# Altium integrated library TI Converter Analog to Digital.IntLib: 146 symbols (part 2 of 4)
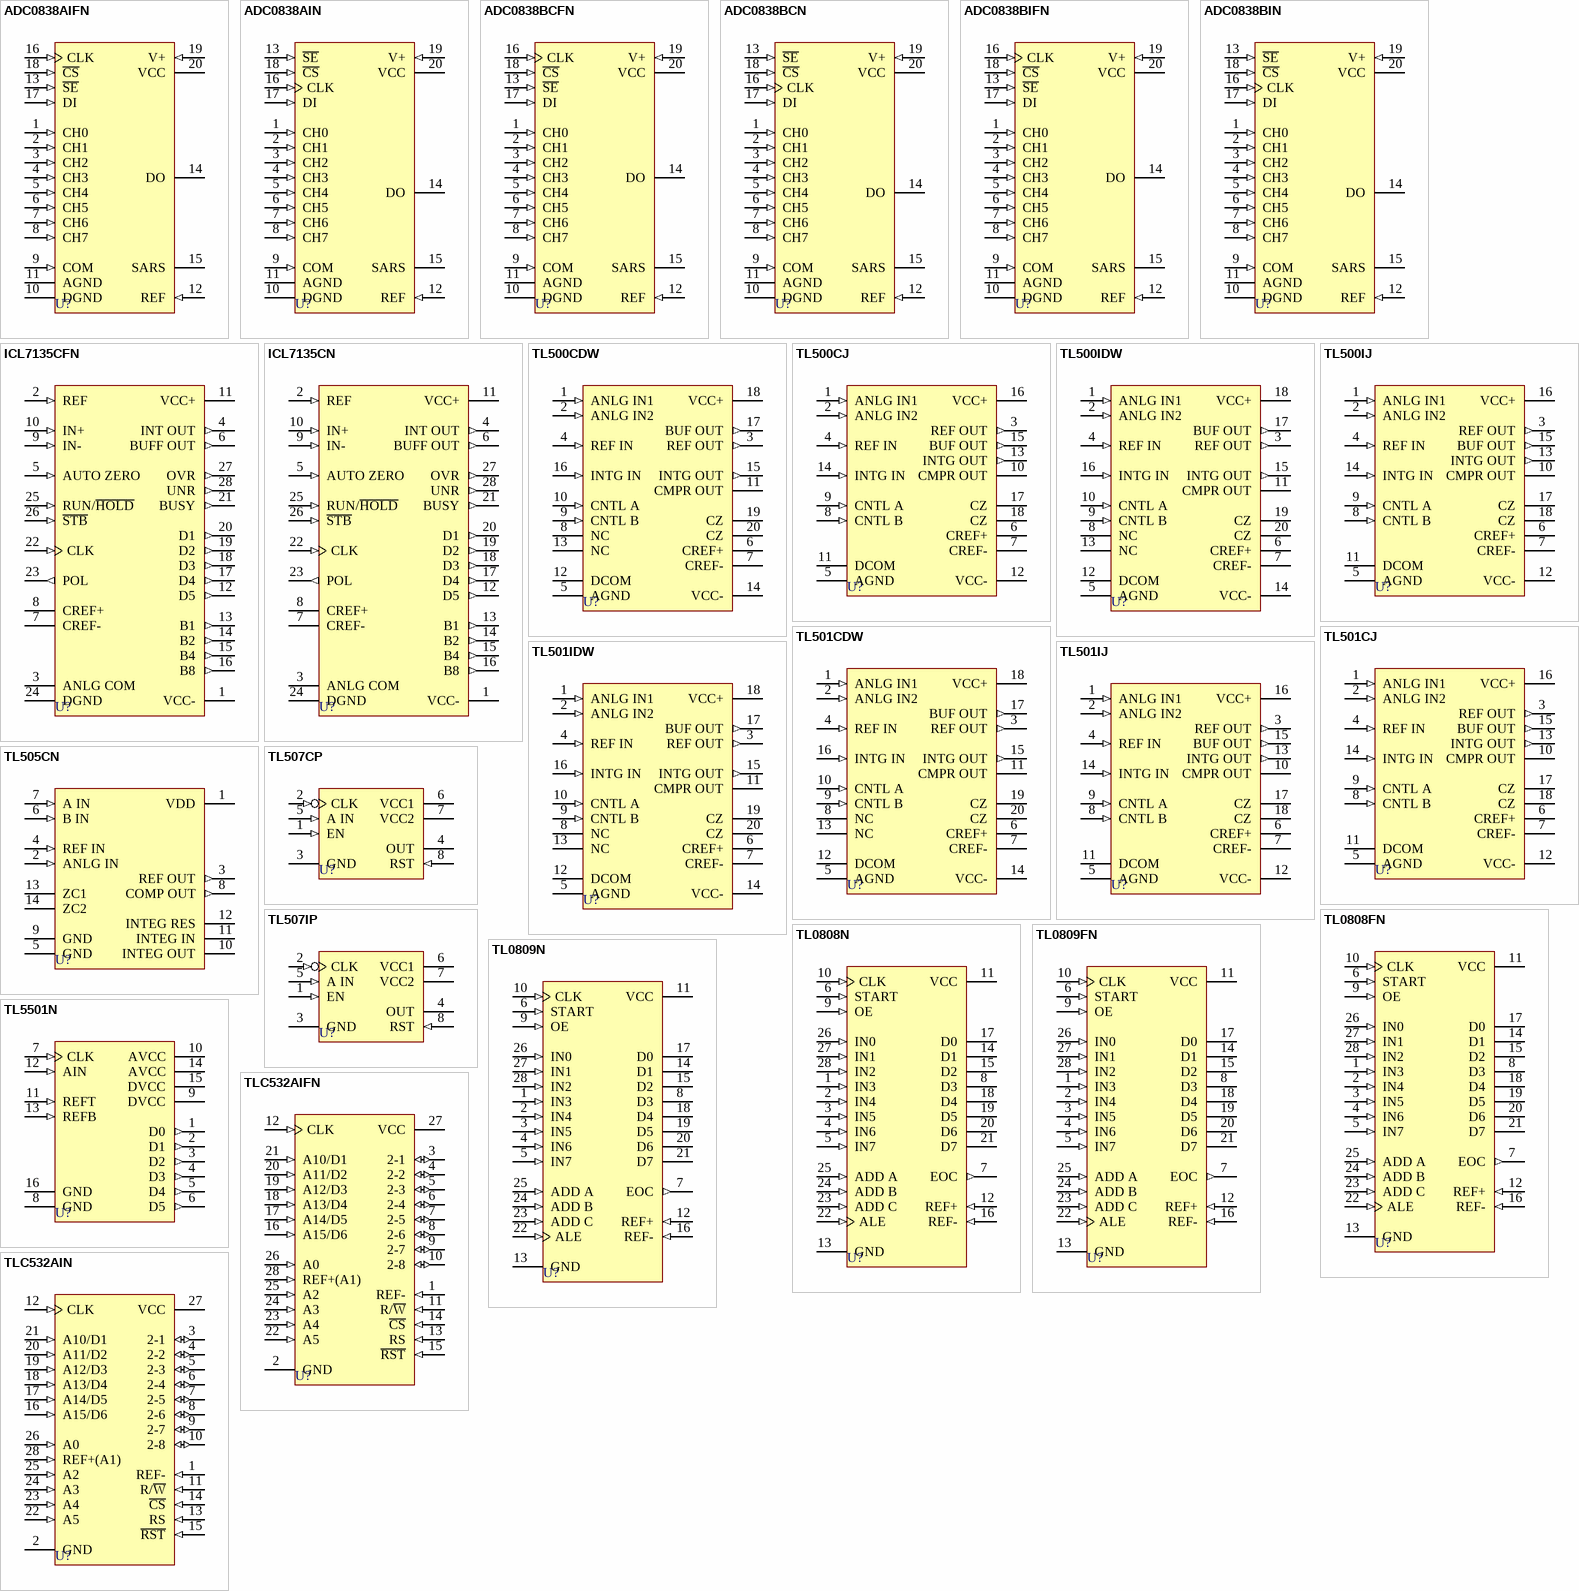
[diagram p6: symbols ADC0838AIFN to TLC532AIN]

## TL0808FN
designator U?
Low-Power CMOS Analog-to-Digital Converter with 8-Channel Multiplexer; Published: 15-Apr-2002; LatestRevisionDate: 13-Apr-2006; LatestRevisionNote: IPC-7351 Footprint Added.; DatasheetVersion: May-1988; PackageVersion: Oct-1994; PackageReference: FN028; Publisher: Altium Limited; PackageDescription: 28-Pin Leaded Chip Carrier 1.27 mm Pitch; Code_JEDEC: MS-018; Code_IPC: PLCC-28; ComponentLink1Description: Manufacturer Link; ComponentLink1URL: http://www.ti.com/
footprint FN028_N (Leaded Chip Carrier, 28-Leads, Body 11.5x11.5mm, Pitch 1.27mm, IPC Medium Density)
footprint FN028_L (Leaded Chip Carrier, 28-Leads, Body 11.5x11.5mm, Pitch 1.27mm, IPC High Density)
footprint FN028_M (Leaded Chip Carrier, 28-Leads, Body 11.5x11.5mm, Pitch 1.27mm, IPC Low Density)
3D model TL0808-FN028 (28-Pin Leaded Chip Carrier 1.27 mm Pitch)
pins: 1 IN3 (in), 2 IN4 (in), 3 IN5 (in), 4 IN6 (in), 5 IN7 (in), 6 START (in), 7 EOC (out), 8 D3 (hiz), 9 OE (in), 10 CLK (in), 11 VCC (power), 12 REF+ (in), 13 GND (power), 14 D1 (hiz), 15 D2 (hiz), 16 REF- (in), 17 D0 (hiz), 18 D4 (hiz), 19 D5 (hiz), 20 D6 (hiz), 21 D7 (hiz), 22 ALE (in), 23 ADD C (in), 24 ADD B (in), 25 ADD A (in), 26 IN0 (in), 27 IN1 (in), 28 IN2 (in)

## TL0808N
designator U?
Low-Power CMOS Analog-to-Digital Converter with 8-Channel Multiplexer; Published: 15-Apr-2002; LatestRevisionDate: 08-Jul-2005; LatestRevisionNote: Stylized 3D Model Added.; DatasheetVersion: May-1988; PackageVersion: Oct-1994; PackageReference: N028; Publisher: Altium Limited; PackageDescription: DIP; 28 Leads; Row Spacing 15.24 mm; Pitch 2.54 mm; ComponentLink1Description: Manufacturer Link; ComponentLink1URL: http://www.ti.com/
footprint N028 (DIP; 28 Leads; Row Spacing 15.24 mm; Pitch 2.54 mm)
3D model N028 (DIP; 28 Leads; Row Spacing 15.24 mm; Pitch 2.54 mm)
pins: 1 IN3 (in), 2 IN4 (in), 3 IN5 (in), 4 IN6 (in), 5 IN7 (in), 6 START (in), 7 EOC (out), 8 D3 (hiz), 9 OE (in), 10 CLK (in), 11 VCC (power), 12 REF+ (in), 13 GND (power), 14 D1 (hiz), 15 D2 (hiz), 16 REF- (in), 17 D0 (hiz), 18 D4 (hiz), 19 D5 (hiz), 20 D6 (hiz), 21 D7 (hiz), 22 ALE (in), 23 ADD C (in), 24 ADD B (in), 25 ADD A (in), 26 IN0 (in), 27 IN1 (in), 28 IN2 (in)

## TL0809FN
designator U?
Low-Power CMOS Analog-to-Digital Converter with 8-Channel Multiplexer; Published: 15-Apr-2002; LatestRevisionDate: 13-Apr-2006; LatestRevisionNote: IPC-7351 Footprint Added.; DatasheetVersion: May-1988; PackageVersion: Oct-1994; PackageReference: FN028; Publisher: Altium Limited; PackageDescription: 28-Pin Leaded Chip Carrier 1.27 mm Pitch; Code_JEDEC: MS-018; Code_IPC: PLCC-28; ComponentLink1Description: Manufacturer Link; ComponentLink1URL: http://www.ti.com/
footprint FN028_N (Leaded Chip Carrier, 28-Leads, Body 11.5x11.5mm, Pitch 1.27mm, IPC Medium Density)
footprint FN028_L (Leaded Chip Carrier, 28-Leads, Body 11.5x11.5mm, Pitch 1.27mm, IPC High Density)
footprint FN028_M (Leaded Chip Carrier, 28-Leads, Body 11.5x11.5mm, Pitch 1.27mm, IPC Low Density)
3D model TL0809-FN028 (28-Pin Leaded Chip Carrier 1.27 mm Pitch)
pins: 1 IN3 (in), 2 IN4 (in), 3 IN5 (in), 4 IN6 (in), 5 IN7 (in), 6 START (in), 7 EOC (out), 8 D3 (hiz), 9 OE (in), 10 CLK (in), 11 VCC (power), 12 REF+ (in), 13 GND (power), 14 D1 (hiz), 15 D2 (hiz), 16 REF- (in), 17 D0 (hiz), 18 D4 (hiz), 19 D5 (hiz), 20 D6 (hiz), 21 D7 (hiz), 22 ALE (in), 23 ADD C (in), 24 ADD B (in), 25 ADD A (in), 26 IN0 (in), 27 IN1 (in), 28 IN2 (in)

## TL0809N
designator U?
Low-Power CMOS Analog-to-Digital Converter with 8-Channel Multiplexer; Published: 15-Apr-2002; LatestRevisionDate: 08-Jul-2005; LatestRevisionNote: Stylized 3D Model Added.; DatasheetVersion: May-1988; PackageVersion: Oct-1994; PackageReference: N028; Publisher: Altium Limited; PackageDescription: DIP; 28 Leads; Row Spacing 15.24 mm; Pitch 2.54 mm; ComponentLink1Description: Manufacturer Link; ComponentLink1URL: http://www.ti.com/
footprint N028 (DIP; 28 Leads; Row Spacing 15.24 mm; Pitch 2.54 mm)
3D model N028 (DIP; 28 Leads; Row Spacing 15.24 mm; Pitch 2.54 mm)
pins: 1 IN3 (in), 2 IN4 (in), 3 IN5 (in), 4 IN6 (in), 5 IN7 (in), 6 START (in), 7 EOC (out), 8 D3 (hiz), 9 OE (in), 10 CLK (in), 11 VCC (power), 12 REF+ (in), 13 GND (power), 14 D1 (hiz), 15 D2 (hiz), 16 REF- (in), 17 D0 (hiz), 18 D4 (hiz), 19 D5 (hiz), 20 D6 (hiz), 21 D7 (hiz), 22 ALE (in), 23 ADD C (in), 24 ADD B (in), 25 ADD A (in), 26 IN0 (in), 27 IN1 (in), 28 IN2 (in)

## TL5501N
designator U?
6-Bit Analog-to-Digital Converter; ComponentAvailability: Obsolete; Published: 15-Apr-2002; LatestRevisionDate: 08-Jul-2005; LatestRevisionNote: Stylized 3D Model Added.; DatasheetVersion: Oct-1988; PackageVersion: Oct-1995; PackageReference: N016; Publisher: Altium Limited; PackageDescription: DIP; 16 Leads; Row Spacing 7.62 mm; Pitch 2.54 mm; Code_JEDEC: MS-001-BB; ComponentLink1Description: Manufacturer Link; ComponentLink1URL: http://www.ti.com/
footprint N016 (DIP; 16 Leads; Row Spacing 7.62 mm; Pitch 2.54 mm)
3D model N016 (DIP; 16 Leads; Row Spacing 7.62 mm; Pitch 2.54 mm)
pins: 1 D0 (out), 2 D1 (out), 3 D2 (out), 4 D3 (out), 5 D4 (out), 6 D5 (out), 7 CLK (in), 8 GND (power), 9 DVCC (power), 10 AVCC (power), 11 REFT (in), 12 AIN (in), 13 REFB (in), 14 AVCC (power), 15 DVCC (power), 16 GND (power)

## TLC532AIFN
designator U?
LinCMOS 8-Bit Analog-to-Digital Peripheral with 5 Analog and 6 Dual-Purpose Inputs; Published: 15-Apr-2002; LatestRevisionDate: 13-Apr-2006; LatestRevisionNote: IPC-7351 Footprint Added.; DatasheetVersion: Sep-1986; PackageVersion: Oct-1994; PackageReference: FN028; Publisher: Altium Limited; PackageDescription: 28-Pin Leaded Chip Carrier 1.27 mm Pitch; Code_JEDEC: MS-018; Code_IPC: PLCC-28; ComponentLink1Description: Manufacturer Link; ComponentLink1URL: http://www.ti.com/; ComponentLink2Description: Datasheet; ComponentLink2URL: http://www-s.ti.com/sc/ds/tlc532a.pdf
footprint FN028_N (Leaded Chip Carrier, 28-Leads, Body 11.5x11.5mm, Pitch 1.27mm, IPC Medium Density)
footprint FN028_L (Leaded Chip Carrier, 28-Leads, Body 11.5x11.5mm, Pitch 1.27mm, IPC High Density)
footprint FN028_M (Leaded Chip Carrier, 28-Leads, Body 11.5x11.5mm, Pitch 1.27mm, IPC Low Density)
3D model TLC532-FN028 (28-Pin Leaded Chip Carrier 1.27 mm Pitch)
pins: 1 REF- (in), 2 GND (power), 3 2-1 (io), 4 2-2 (io), 5 2-3 (io), 6 2-4 (io), 7 2-5 (io), 8 2-6 (io), 9 2-7 (io), 10 2-8 (io), 11 R/~{W} (in), 12 CLK (in), 13 RS (in), 14 ~{CS} (in), 15 ~{RST} (in), 16 A15/D6 (in), 17 A14/D5 (in), 18 A13/D4 (in), 19 A12/D3 (in), 20 A11/D2 (in), 21 A10/D1 (in), 22 A5 (in), 23 A4 (in), 24 A3 (in), 25 A2 (in), 26 A0 (in), 27 VCC (power), 28 REF+(A1) (in)

## TLC532AIN
designator U?
LinCMOS 8-Bit Analog-to-Digital Peripheral with 5 Analog and 6 Dual-Purpose Inputs; Published: 15-Apr-2002; LatestRevisionDate: 08-Jul-2005; LatestRevisionNote: Stylized 3D Model Added.; DatasheetVersion: Sep-1986; PackageVersion: Oct-1994; PackageReference: N028; Publisher: Altium Limited; PackageDescription: DIP; 28 Leads; Row Spacing 15.24 mm; Pitch 2.54 mm; ComponentLink1Description: Manufacturer Link; ComponentLink1URL: http://www.ti.com/; ComponentLink2Description: Datasheet; ComponentLink2URL: http://www-s.ti.com/sc/ds/tlc532a.pdf
footprint N028 (DIP; 28 Leads; Row Spacing 15.24 mm; Pitch 2.54 mm)
3D model N028 (DIP; 28 Leads; Row Spacing 15.24 mm; Pitch 2.54 mm)
pins: 1 REF- (in), 2 GND (power), 3 2-1 (io), 4 2-2 (io), 5 2-3 (io), 6 2-4 (io), 7 2-5 (io), 8 2-6 (io), 9 2-7 (io), 10 2-8 (io), 11 R/~{W} (in), 12 CLK (in), 13 RS (in), 14 ~{CS} (in), 15 ~{RST} (in), 16 A15/D6 (in), 17 A14/D5 (in), 18 A13/D4 (in), 19 A12/D3 (in), 20 A11/D2 (in), 21 A10/D1 (in), 22 A5 (in), 23 A4 (in), 24 A3 (in), 25 A2 (in), 26 A0 (in), 27 VCC (power), 28 REF+(A1) (in)

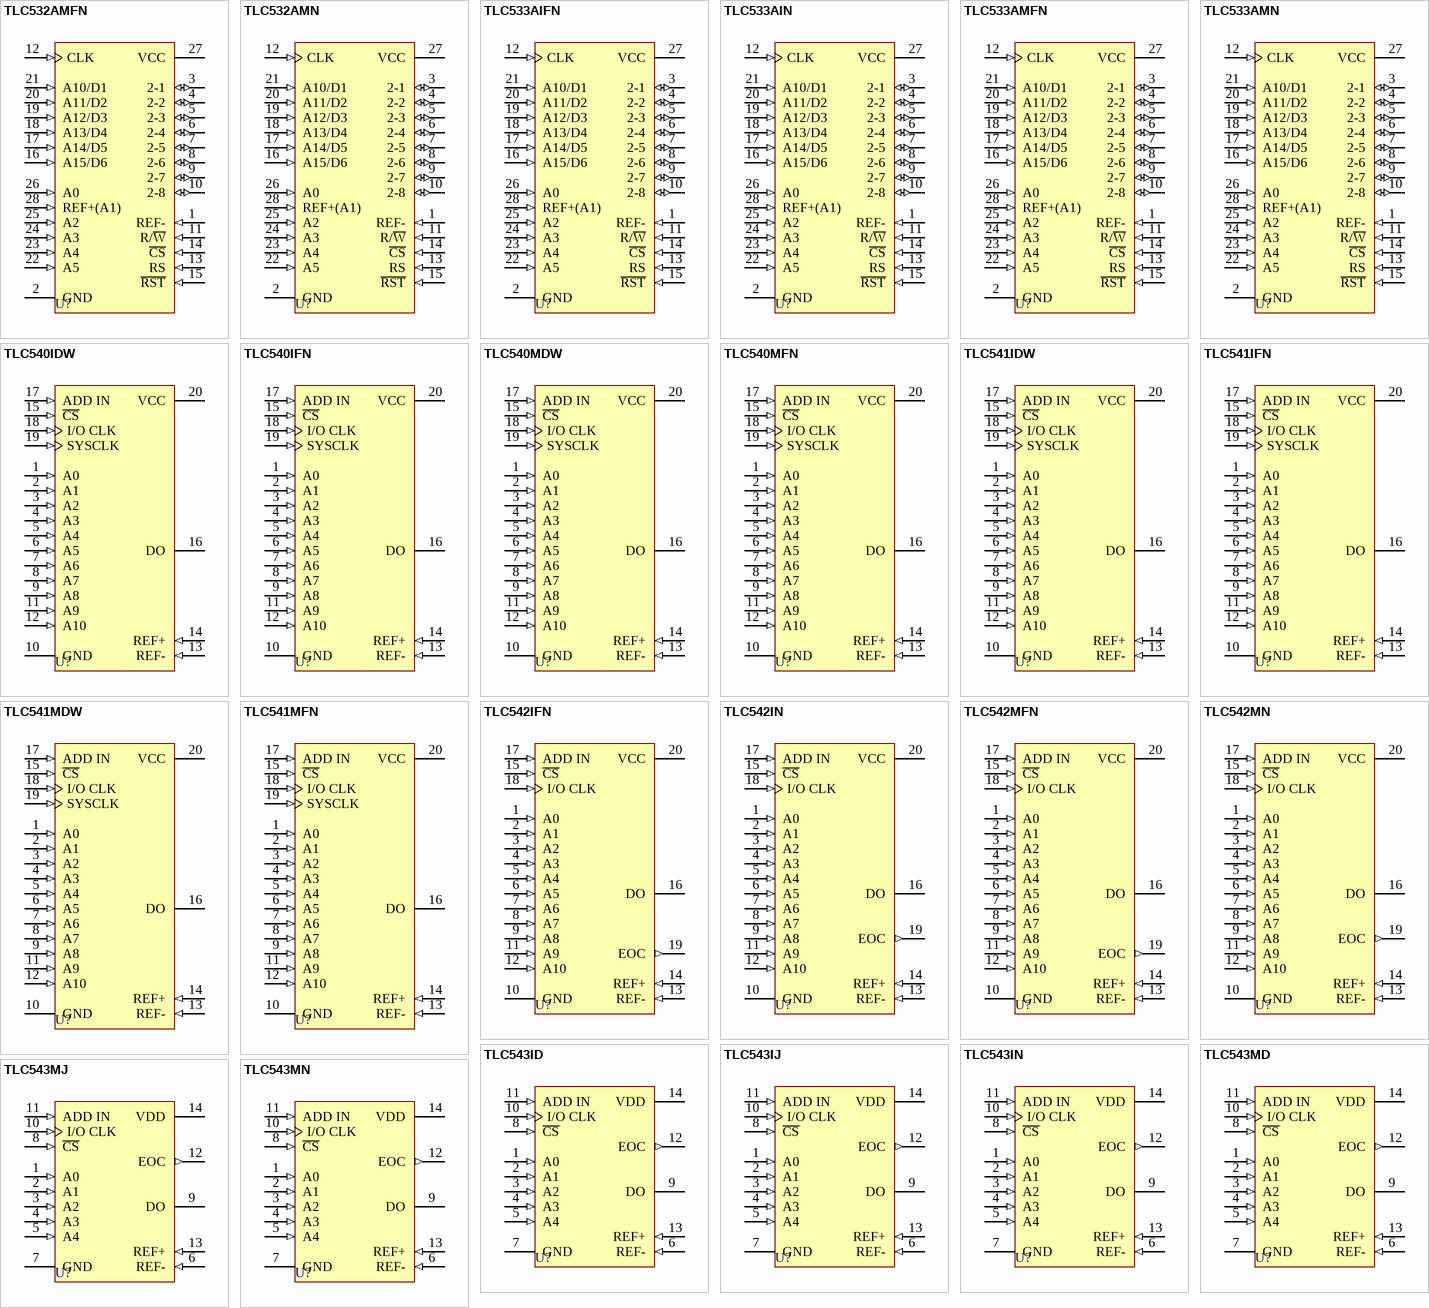
[diagram p2: symbols TLC532AMFN to TLC543MN]

## TLC532AMFN
designator U?
LinCMOS 8-Bit Analog-to-Digital Peripheral with 5 Analog and 6 Dual-Purpose Inputs; Published: 15-Apr-2002; LatestRevisionDate: 13-Apr-2006; LatestRevisionNote: IPC-7351 Footprint Added.; DatasheetVersion: Sep-1986; PackageVersion: Oct-1994; PackageReference: FN028; Publisher: Altium Limited; PackageDescription: 28-Pin Leaded Chip Carrier 1.27 mm Pitch; Code_JEDEC: MS-018; Code_IPC: PLCC-28; ComponentLink1Description: Manufacturer Link; ComponentLink1URL: http://www.ti.com/; ComponentLink2Description: Datasheet; ComponentLink2URL: http://www-s.ti.com/sc/ds/tlc532a.pdf
footprint FN028_N (Leaded Chip Carrier, 28-Leads, Body 11.5x11.5mm, Pitch 1.27mm, IPC Medium Density)
footprint FN028_L (Leaded Chip Carrier, 28-Leads, Body 11.5x11.5mm, Pitch 1.27mm, IPC High Density)
footprint FN028_M (Leaded Chip Carrier, 28-Leads, Body 11.5x11.5mm, Pitch 1.27mm, IPC Low Density)
3D model TLC532-FN028 (28-Pin Leaded Chip Carrier 1.27 mm Pitch)
pins: 1 REF- (in), 2 GND (power), 3 2-1 (io), 4 2-2 (io), 5 2-3 (io), 6 2-4 (io), 7 2-5 (io), 8 2-6 (io), 9 2-7 (io), 10 2-8 (io), 11 R/~{W} (in), 12 CLK (in), 13 RS (in), 14 ~{CS} (in), 15 ~{RST} (in), 16 A15/D6 (in), 17 A14/D5 (in), 18 A13/D4 (in), 19 A12/D3 (in), 20 A11/D2 (in), 21 A10/D1 (in), 22 A5 (in), 23 A4 (in), 24 A3 (in), 25 A2 (in), 26 A0 (in), 27 VCC (power), 28 REF+(A1) (in)

## TLC532AMN
designator U?
LinCMOS 8-Bit Analog-to-Digital Peripheral with 5 Analog and 6 Dual-Purpose Inputs; Published: 15-Apr-2002; LatestRevisionDate: 08-Jul-2005; LatestRevisionNote: Stylized 3D Model Added.; DatasheetVersion: Sep-1986; PackageVersion: Oct-1994; PackageReference: N028; Publisher: Altium Limited; PackageDescription: DIP; 28 Leads; Row Spacing 15.24 mm; Pitch 2.54 mm; ComponentLink1Description: Manufacturer Link; ComponentLink1URL: http://www.ti.com/; ComponentLink2Description: Datasheet; ComponentLink2URL: http://www-s.ti.com/sc/ds/tlc532a.pdf
footprint N028 (DIP; 28 Leads; Row Spacing 15.24 mm; Pitch 2.54 mm)
3D model N028 (DIP; 28 Leads; Row Spacing 15.24 mm; Pitch 2.54 mm)
pins: 1 REF- (in), 2 GND (power), 3 2-1 (io), 4 2-2 (io), 5 2-3 (io), 6 2-4 (io), 7 2-5 (io), 8 2-6 (io), 9 2-7 (io), 10 2-8 (io), 11 R/~{W} (in), 12 CLK (in), 13 RS (in), 14 ~{CS} (in), 15 ~{RST} (in), 16 A15/D6 (in), 17 A14/D5 (in), 18 A13/D4 (in), 19 A12/D3 (in), 20 A11/D2 (in), 21 A10/D1 (in), 22 A5 (in), 23 A4 (in), 24 A3 (in), 25 A2 (in), 26 A0 (in), 27 VCC (power), 28 REF+(A1) (in)

## TLC533AIFN
designator U?
LinCMOS 8-Bit Analog-to-Digital Peripheral with 5 Analog and 6 Dual-Purpose Inputs; Published: 15-Apr-2002; LatestRevisionDate: 13-Apr-2006; LatestRevisionNote: IPC-7351 Footprint Added.; DatasheetVersion: Sep-1986; PackageVersion: Oct-1994; PackageReference: FN028; Publisher: Altium Limited; PackageDescription: 28-Pin Leaded Chip Carrier 1.27 mm Pitch; Code_JEDEC: MS-018; Code_IPC: PLCC-28; ComponentLink1Description: Manufacturer Link; ComponentLink1URL: http://www.ti.com/; ComponentLink2Description: Datasheet; ComponentLink2URL: http://www-s.ti.com/sc/ds/tlc533a.pdf
footprint FN028_N (Leaded Chip Carrier, 28-Leads, Body 11.5x11.5mm, Pitch 1.27mm, IPC Medium Density)
footprint FN028_L (Leaded Chip Carrier, 28-Leads, Body 11.5x11.5mm, Pitch 1.27mm, IPC High Density)
footprint FN028_M (Leaded Chip Carrier, 28-Leads, Body 11.5x11.5mm, Pitch 1.27mm, IPC Low Density)
3D model TLC533-FN028 (28-Pin Leaded Chip Carrier 1.27 mm Pitch)
pins: 1 REF- (in), 2 GND (power), 3 2-1 (io), 4 2-2 (io), 5 2-3 (io), 6 2-4 (io), 7 2-5 (io), 8 2-6 (io), 9 2-7 (io), 10 2-8 (io), 11 R/~{W} (in), 12 CLK (in), 13 RS (in), 14 ~{CS} (in), 15 ~{RST} (in), 16 A15/D6 (in), 17 A14/D5 (in), 18 A13/D4 (in), 19 A12/D3 (in), 20 A11/D2 (in), 21 A10/D1 (in), 22 A5 (in), 23 A4 (in), 24 A3 (in), 25 A2 (in), 26 A0 (in), 27 VCC (power), 28 REF+(A1) (in)

## TLC533AIN
designator U?
LinCMOS 8-Bit Analog-to-Digital Peripheral with 5 Analog and 6 Dual-Purpose Inputs; Published: 15-Apr-2002; LatestRevisionDate: 08-Jul-2005; LatestRevisionNote: Stylized 3D Model Added.; DatasheetVersion: Sep-1986; PackageVersion: Oct-1994; PackageReference: N028; Publisher: Altium Limited; PackageDescription: DIP; 28 Leads; Row Spacing 15.24 mm; Pitch 2.54 mm; ComponentLink1Description: Manufacturer Link; ComponentLink1URL: http://www.ti.com/; ComponentLink2Description: Datasheet; ComponentLink2URL: http://www-s.ti.com/sc/ds/tlc533a.pdf
footprint N028 (DIP; 28 Leads; Row Spacing 15.24 mm; Pitch 2.54 mm)
3D model N028 (DIP; 28 Leads; Row Spacing 15.24 mm; Pitch 2.54 mm)
pins: 1 REF- (in), 2 GND (power), 3 2-1 (io), 4 2-2 (io), 5 2-3 (io), 6 2-4 (io), 7 2-5 (io), 8 2-6 (io), 9 2-7 (io), 10 2-8 (io), 11 R/~{W} (in), 12 CLK (in), 13 RS (in), 14 ~{CS} (in), 15 ~{RST} (in), 16 A15/D6 (in), 17 A14/D5 (in), 18 A13/D4 (in), 19 A12/D3 (in), 20 A11/D2 (in), 21 A10/D1 (in), 22 A5 (in), 23 A4 (in), 24 A3 (in), 25 A2 (in), 26 A0 (in), 27 VCC (power), 28 REF+(A1) (in)

## TLC533AMFN
designator U?
LinCMOS 8-Bit Analog-to-Digital Peripheral with 5 Analog and 6 Dual-Purpose Inputs; Published: 15-Apr-2002; LatestRevisionDate: 13-Apr-2006; LatestRevisionNote: IPC-7351 Footprint Added.; DatasheetVersion: Sep-1986; PackageVersion: Oct-1994; PackageReference: FN028; Publisher: Altium Limited; PackageDescription: 28-Pin Leaded Chip Carrier 1.27 mm Pitch; Code_JEDEC: MS-018; Code_IPC: PLCC-28; ComponentLink1Description: Manufacturer Link; ComponentLink1URL: http://www.ti.com/; ComponentLink2Description: Datasheet; ComponentLink2URL: http://www-s.ti.com/sc/ds/tlc533a.pdf
footprint FN028_N (Leaded Chip Carrier, 28-Leads, Body 11.5x11.5mm, Pitch 1.27mm, IPC Medium Density)
footprint FN028_L (Leaded Chip Carrier, 28-Leads, Body 11.5x11.5mm, Pitch 1.27mm, IPC High Density)
footprint FN028_M (Leaded Chip Carrier, 28-Leads, Body 11.5x11.5mm, Pitch 1.27mm, IPC Low Density)
3D model TLC533-FN028 (28-Pin Leaded Chip Carrier 1.27 mm Pitch)
pins: 1 REF- (in), 2 GND (power), 3 2-1 (io), 4 2-2 (io), 5 2-3 (io), 6 2-4 (io), 7 2-5 (io), 8 2-6 (io), 9 2-7 (io), 10 2-8 (io), 11 R/~{W} (in), 12 CLK (in), 13 RS (in), 14 ~{CS} (in), 15 ~{RST} (in), 16 A15/D6 (in), 17 A14/D5 (in), 18 A13/D4 (in), 19 A12/D3 (in), 20 A11/D2 (in), 21 A10/D1 (in), 22 A5 (in), 23 A4 (in), 24 A3 (in), 25 A2 (in), 26 A0 (in), 27 VCC (power), 28 REF+(A1) (in)

## TLC533AMN
designator U?
LinCMOS 8-Bit Analog-to-Digital Peripheral with 5 Analog and 6 Dual-Purpose Inputs; Published: 15-Apr-2002; LatestRevisionDate: 08-Jul-2005; LatestRevisionNote: Stylized 3D Model Added.; DatasheetVersion: Sep-1986; PackageVersion: Oct-1994; PackageReference: N028; Publisher: Altium Limited; PackageDescription: DIP; 28 Leads; Row Spacing 15.24 mm; Pitch 2.54 mm; ComponentLink1Description: Manufacturer Link; ComponentLink1URL: http://www.ti.com/; ComponentLink2Description: Datasheet; ComponentLink2URL: http://www-s.ti.com/sc/ds/tlc533a.pdf
footprint N028 (DIP; 28 Leads; Row Spacing 15.24 mm; Pitch 2.54 mm)
3D model N028 (DIP; 28 Leads; Row Spacing 15.24 mm; Pitch 2.54 mm)
pins: 1 REF- (in), 2 GND (power), 3 2-1 (io), 4 2-2 (io), 5 2-3 (io), 6 2-4 (io), 7 2-5 (io), 8 2-6 (io), 9 2-7 (io), 10 2-8 (io), 11 R/~{W} (in), 12 CLK (in), 13 RS (in), 14 ~{CS} (in), 15 ~{RST} (in), 16 A15/D6 (in), 17 A14/D5 (in), 18 A13/D4 (in), 19 A12/D3 (in), 20 A11/D2 (in), 21 A10/D1 (in), 22 A5 (in), 23 A4 (in), 24 A3 (in), 25 A2 (in), 26 A0 (in), 27 VCC (power), 28 REF+(A1) (in)

## TLC540IDW
designator U?
LinCMOS 8-Bit Analog-to-Digital Peripheral with Serial Control and 11 Inputs; Published: 15-Apr-2002; LatestRevisionDate: 13-Apr-2006; LatestRevisionNote: IPC-7351 Footprint Added.; DatasheetVersion: Oct-1988; PackageVersion: Mar-2000; PackageReference: DW020; Publisher: Altium Limited; PackageDescription: 20-Pin Plastic Small Outline Integrated Circuit 1.27 mm Pitch; Code_JEDEC: MS-013; Code_IPC: SOIC127P1030-20; ComponentLink1Description: Manufacturer Link; ComponentLink1URL: http://www.ti.com/; ComponentLink2Description: Datasheet; ComponentLink2URL: http://www-s.ti.com/sc/ds/tlc540.pdf
footprint DW020_N (SOIC, 20-Leads, Body 12.8x7.5mm, Pitch 1.27mm, IPC Medium Density)
footprint DW020_L (SOIC, 20-Leads, Body 12.8x7.5mm, Pitch 1.27mm, IPC High Density)
footprint DW020_M (SOIC, 20-Leads, Body 12.8x7.5mm, Pitch 1.27mm, IPC Low Density)
3D model DW020 (20-Pin Plastic Small Outline Integrated Circuit 1.27 mm Pitch)
pins: 1 A0 (in), 2 A1 (in), 3 A2 (in), 4 A3 (in), 5 A4 (in), 6 A5 (in), 7 A6 (in), 8 A7 (in), 9 A8 (in), 10 GND (power), 11 A9 (in), 12 A10 (in), 13 REF- (in), 14 REF+ (in), 15 ~{CS} (in), 16 DO (hiz), 17 ADD IN (in), 18 I/O CLK (in), 19 SYSCLK (in), 20 VCC (power)

## TLC540IFN
designator U?
LinCMOS 8-Bit Analog-to-Digital Peripheral with Serial Control and 11 Inputs; Published: 15-Apr-2002; LatestRevisionDate: 13-Apr-2006; LatestRevisionNote: IPC-7351 Footprint Added.; DatasheetVersion: Oct-1988; PackageVersion: Oct-1994; PackageReference: FN020; Publisher: Altium Limited; PackageDescription: 20-Pin Leaded Chip Carrier 1.27 mm Pitch; Code_IPC: PLCC-20; ComponentLink1Description: Manufacturer Link; ComponentLink1URL: http://www.ti.com/; ComponentLink2Description: Datasheet; ComponentLink2URL: http://www-s.ti.com/sc/ds/tlc540.pdf
footprint FN020_N (Leaded Chip Carrier, 20-Leads, Body 9x9mm, Pitch 1.27mm, IPC Medium Density)
footprint FN020_L (Leaded Chip Carrier, 20-Leads, Body 9x9mm, Pitch 1.27mm, IPC High Density)
footprint FN020_M (Leaded Chip Carrier, 20-Leads, Body 9x9mm, Pitch 1.27mm, IPC Low Density)
3D model TLC540-FN020 (20-Pin Leaded Chip Carrier 1.27 mm Pitch)
pins: 1 A0 (in), 2 A1 (in), 3 A2 (in), 4 A3 (in), 5 A4 (in), 6 A5 (in), 7 A6 (in), 8 A7 (in), 9 A8 (in), 10 GND (power), 11 A9 (in), 12 A10 (in), 13 REF- (in), 14 REF+ (in), 15 ~{CS} (in), 16 DO (hiz), 17 ADD IN (in), 18 I/O CLK (in), 19 SYSCLK (in), 20 VCC (power)

## TLC540MDW
designator U?
LinCMOS 8-Bit Analog-to-Digital Peripheral with Serial Control and 11 Inputs; Published: 15-Apr-2002; LatestRevisionDate: 13-Apr-2006; LatestRevisionNote: IPC-7351 Footprint Added.; DatasheetVersion: Oct-1988; PackageVersion: Mar-2000; PackageReference: DW020; Publisher: Altium Limited; PackageDescription: 20-Pin Plastic Small Outline Integrated Circuit 1.27 mm Pitch; Code_JEDEC: MS-013; Code_IPC: SOIC127P1030-20; ComponentLink1Description: Manufacturer Link; ComponentLink1URL: http://www.ti.com/
footprint DW020_N (SOIC, 20-Leads, Body 12.8x7.5mm, Pitch 1.27mm, IPC Medium Density)
footprint DW020_L (SOIC, 20-Leads, Body 12.8x7.5mm, Pitch 1.27mm, IPC High Density)
footprint DW020_M (SOIC, 20-Leads, Body 12.8x7.5mm, Pitch 1.27mm, IPC Low Density)
3D model DW020 (20-Pin Plastic Small Outline Integrated Circuit 1.27 mm Pitch)
pins: 1 A0 (in), 2 A1 (in), 3 A2 (in), 4 A3 (in), 5 A4 (in), 6 A5 (in), 7 A6 (in), 8 A7 (in), 9 A8 (in), 10 GND (power), 11 A9 (in), 12 A10 (in), 13 REF- (in), 14 REF+ (in), 15 ~{CS} (in), 16 DO (hiz), 17 ADD IN (in), 18 I/O CLK (in), 19 SYSCLK (in), 20 VCC (power)

## TLC540MFN
designator U?
LinCMOS 8-Bit Analog-to-Digital Peripheral with Serial Control and 11 Inputs; Published: 15-Apr-2002; LatestRevisionDate: 13-Apr-2006; LatestRevisionNote: IPC-7351 Footprint Added.; DatasheetVersion: Oct-1988; PackageVersion: Oct-1994; PackageReference: FN020; Publisher: Altium Limited; PackageDescription: 20-Pin Leaded Chip Carrier 1.27 mm Pitch; Code_IPC: PLCC-20; ComponentLink1Description: Manufacturer Link; ComponentLink1URL: http://www.ti.com/
footprint FN020_N (Leaded Chip Carrier, 20-Leads, Body 9x9mm, Pitch 1.27mm, IPC Medium Density)
footprint FN020_L (Leaded Chip Carrier, 20-Leads, Body 9x9mm, Pitch 1.27mm, IPC High Density)
footprint FN020_M (Leaded Chip Carrier, 20-Leads, Body 9x9mm, Pitch 1.27mm, IPC Low Density)
3D model TLC540-FN020 (20-Pin Leaded Chip Carrier 1.27 mm Pitch)
pins: 1 A0 (in), 2 A1 (in), 3 A2 (in), 4 A3 (in), 5 A4 (in), 6 A5 (in), 7 A6 (in), 8 A7 (in), 9 A8 (in), 10 GND (power), 11 A9 (in), 12 A10 (in), 13 REF- (in), 14 REF+ (in), 15 ~{CS} (in), 16 DO (hiz), 17 ADD IN (in), 18 I/O CLK (in), 19 SYSCLK (in), 20 VCC (power)

## TLC541IDW
designator U?
LinCMOS 8-Bit Analog-to-Digital Peripheral with Serial Control and 11 Inputs; Published: 15-Apr-2002; LatestRevisionDate: 13-Apr-2006; LatestRevisionNote: IPC-7351 Footprint Added.; DatasheetVersion: Oct-1988; PackageVersion: Mar-2000; PackageReference: DW020; Publisher: Altium Limited; PackageDescription: 20-Pin Plastic Small Outline Integrated Circuit 1.27 mm Pitch; Code_JEDEC: MS-013; Code_IPC: SOIC127P1030-20; ComponentLink1Description: Manufacturer Link; ComponentLink1URL: http://www.ti.com/; ComponentLink2Description: Datasheet; ComponentLink2URL: http://www-s.ti.com/sc/ds/tlc541.pdf
footprint DW020_N (SOIC, 20-Leads, Body 12.8x7.5mm, Pitch 1.27mm, IPC Medium Density)
footprint DW020_L (SOIC, 20-Leads, Body 12.8x7.5mm, Pitch 1.27mm, IPC High Density)
footprint DW020_M (SOIC, 20-Leads, Body 12.8x7.5mm, Pitch 1.27mm, IPC Low Density)
3D model DW020 (20-Pin Plastic Small Outline Integrated Circuit 1.27 mm Pitch)
pins: 1 A0 (in), 2 A1 (in), 3 A2 (in), 4 A3 (in), 5 A4 (in), 6 A5 (in), 7 A6 (in), 8 A7 (in), 9 A8 (in), 10 GND (power), 11 A9 (in), 12 A10 (in), 13 REF- (in), 14 REF+ (in), 15 ~{CS} (in), 16 DO (hiz), 17 ADD IN (in), 18 I/O CLK (in), 19 SYSCLK (in), 20 VCC (power)

## TLC541IFN
designator U?
LinCMOS 8-Bit Analog-to-Digital Peripheral with Serial Control and 11 Inputs; Published: 15-Apr-2002; LatestRevisionDate: 13-Apr-2006; LatestRevisionNote: IPC-7351 Footprint Added.; DatasheetVersion: Oct-1988; PackageVersion: Oct-1994; PackageReference: FN020; Publisher: Altium Limited; PackageDescription: 20-Pin Leaded Chip Carrier 1.27 mm Pitch; Code_IPC: PLCC-20; ComponentLink1Description: Manufacturer Link; ComponentLink1URL: http://www.ti.com/; ComponentLink2Description: Datasheet; ComponentLink2URL: http://www-s.ti.com/sc/ds/tlc541.pdf
footprint FN020_N (Leaded Chip Carrier, 20-Leads, Body 9x9mm, Pitch 1.27mm, IPC Medium Density)
footprint FN020_L (Leaded Chip Carrier, 20-Leads, Body 9x9mm, Pitch 1.27mm, IPC High Density)
footprint FN020_M (Leaded Chip Carrier, 20-Leads, Body 9x9mm, Pitch 1.27mm, IPC Low Density)
3D model TLC541-FN020 (20-Pin Leaded Chip Carrier 1.27 mm Pitch)
pins: 1 A0 (in), 2 A1 (in), 3 A2 (in), 4 A3 (in), 5 A4 (in), 6 A5 (in), 7 A6 (in), 8 A7 (in), 9 A8 (in), 10 GND (power), 11 A9 (in), 12 A10 (in), 13 REF- (in), 14 REF+ (in), 15 ~{CS} (in), 16 DO (hiz), 17 ADD IN (in), 18 I/O CLK (in), 19 SYSCLK (in), 20 VCC (power)

## TLC541MDW
designator U?
LinCMOS 8-Bit Analog-to-Digital Peripheral with Serial Control and 11 Inputs; Published: 15-Apr-2002; LatestRevisionDate: 13-Apr-2006; LatestRevisionNote: IPC-7351 Footprint Added.; DatasheetVersion: Oct-1988; PackageVersion: Mar-2000; PackageReference: DW020; Publisher: Altium Limited; PackageDescription: 20-Pin Plastic Small Outline Integrated Circuit 1.27 mm Pitch; Code_JEDEC: MS-013; Code_IPC: SOIC127P1030-20; ComponentLink1Description: Manufacturer Link; ComponentLink1URL: http://www.ti.com/
footprint DW020_N (SOIC, 20-Leads, Body 12.8x7.5mm, Pitch 1.27mm, IPC Medium Density)
footprint DW020_L (SOIC, 20-Leads, Body 12.8x7.5mm, Pitch 1.27mm, IPC High Density)
footprint DW020_M (SOIC, 20-Leads, Body 12.8x7.5mm, Pitch 1.27mm, IPC Low Density)
3D model DW020 (20-Pin Plastic Small Outline Integrated Circuit 1.27 mm Pitch)
pins: 1 A0 (in), 2 A1 (in), 3 A2 (in), 4 A3 (in), 5 A4 (in), 6 A5 (in), 7 A6 (in), 8 A7 (in), 9 A8 (in), 10 GND (power), 11 A9 (in), 12 A10 (in), 13 REF- (in), 14 REF+ (in), 15 ~{CS} (in), 16 DO (hiz), 17 ADD IN (in), 18 I/O CLK (in), 19 SYSCLK (in), 20 VCC (power)

## TLC541MFN
designator U?
LinCMOS 8-Bit Analog-to-Digital Peripheral with Serial Control and 11 Inputs; Published: 15-Apr-2002; LatestRevisionDate: 13-Apr-2006; LatestRevisionNote: IPC-7351 Footprint Added.; DatasheetVersion: Oct-1988; PackageVersion: Oct-1994; PackageReference: FN020; Publisher: Altium Limited; PackageDescription: 20-Pin Leaded Chip Carrier 1.27 mm Pitch; Code_IPC: PLCC-20; ComponentLink1Description: Manufacturer Link; ComponentLink1URL: http://www.ti.com/
footprint FN020_N (Leaded Chip Carrier, 20-Leads, Body 9x9mm, Pitch 1.27mm, IPC Medium Density)
footprint FN020_L (Leaded Chip Carrier, 20-Leads, Body 9x9mm, Pitch 1.27mm, IPC High Density)
footprint FN020_M (Leaded Chip Carrier, 20-Leads, Body 9x9mm, Pitch 1.27mm, IPC Low Density)
3D model TLC541-FN020 (20-Pin Leaded Chip Carrier 1.27 mm Pitch)
pins: 1 A0 (in), 2 A1 (in), 3 A2 (in), 4 A3 (in), 5 A4 (in), 6 A5 (in), 7 A6 (in), 8 A7 (in), 9 A8 (in), 10 GND (power), 11 A9 (in), 12 A10 (in), 13 REF- (in), 14 REF+ (in), 15 ~{CS} (in), 16 DO (hiz), 17 ADD IN (in), 18 I/O CLK (in), 19 SYSCLK (in), 20 VCC (power)

## TLC542IFN
designator U?
8-Bit Analog-to-Digital Peripheral with Serial Control and 11 Inputs; Published: 15-Apr-2002; LatestRevisionDate: 13-Apr-2006; LatestRevisionNote: IPC-7351 Footprint Added.; DatasheetVersion: Feb-1989; PackageVersion: Oct-1994; PackageReference: FN020; Publisher: Altium Limited; PackageDescription: 20-Pin Leaded Chip Carrier 1.27 mm Pitch; Code_IPC: PLCC-20; ComponentLink1Description: Manufacturer Link; ComponentLink1URL: http://www.ti.com/; ComponentLink2Description: Datasheet; ComponentLink2URL: http://www-s.ti.com/sc/ds/tlc542.pdf
footprint FN020_N (Leaded Chip Carrier, 20-Leads, Body 9x9mm, Pitch 1.27mm, IPC Medium Density)
footprint FN020_L (Leaded Chip Carrier, 20-Leads, Body 9x9mm, Pitch 1.27mm, IPC High Density)
footprint FN020_M (Leaded Chip Carrier, 20-Leads, Body 9x9mm, Pitch 1.27mm, IPC Low Density)
3D model TLC542-FN020 (20-Pin Leaded Chip Carrier 1.27 mm Pitch)
pins: 1 A0 (in), 2 A1 (in), 3 A2 (in), 4 A3 (in), 5 A4 (in), 6 A5 (in), 7 A6 (in), 8 A7 (in), 9 A8 (in), 10 GND (power), 11 A9 (in), 12 A10 (in), 13 REF- (in), 14 REF+ (in), 15 ~{CS} (in), 16 DO (hiz), 17 ADD IN (in), 18 I/O CLK (in), 19 EOC (out), 20 VCC (power)

## TLC542IN
designator U?
8-Bit Analog-to-Digital Peripheral with Serial Control and 11 Inputs; Published: 15-Apr-2002; LatestRevisionDate: 08-Jul-2005; LatestRevisionNote: Stylized 3D Model Added.; DatasheetVersion: Feb-1989; PackageVersion: Oct-1995; PackageReference: N020; Publisher: Altium Limited; PackageDescription: DIP; 20 Leads; Row Spacing 7.62 mm; Pitch 2.54 mm; ComponentLink1Description: Manufacturer Link; ComponentLink1URL: http://www.ti.com/; ComponentLink2Description: Datasheet; ComponentLink2URL: http://www-s.ti.com/sc/ds/tlc542.pdf
footprint N020 (DIP; 20 Leads; Row Spacing 7.62 mm; Pitch 2.54 mm)
3D model N020 (DIP; 20 Leads; Row Spacing 7.62 mm; Pitch 2.54 mm)
pins: 1 A0 (in), 2 A1 (in), 3 A2 (in), 4 A3 (in), 5 A4 (in), 6 A5 (in), 7 A6 (in), 8 A7 (in), 9 A8 (in), 10 GND (power), 11 A9 (in), 12 A10 (in), 13 REF- (in), 14 REF+ (in), 15 ~{CS} (in), 16 DO (hiz), 17 ADD IN (in), 18 I/O CLK (in), 19 EOC (out), 20 VCC (power)

## TLC542MFN
designator U?
8-Bit Analog-to-Digital Peripheral with Serial Control and 11 Inputs; Published: 15-Apr-2002; LatestRevisionDate: 13-Apr-2006; LatestRevisionNote: IPC-7351 Footprint Added.; DatasheetVersion: Feb-1989; PackageVersion: Oct-1994; PackageReference: FN020; Publisher: Altium Limited; PackageDescription: 20-Pin Leaded Chip Carrier 1.27 mm Pitch; Code_IPC: PLCC-20; ComponentLink1Description: Manufacturer Link; ComponentLink1URL: http://www.ti.com/; ComponentLink2Description: Datasheet; ComponentLink2URL: http://www-s.ti.com/sc/ds/tlc542.pdf
footprint FN020_N (Leaded Chip Carrier, 20-Leads, Body 9x9mm, Pitch 1.27mm, IPC Medium Density)
footprint FN020_L (Leaded Chip Carrier, 20-Leads, Body 9x9mm, Pitch 1.27mm, IPC High Density)
footprint FN020_M (Leaded Chip Carrier, 20-Leads, Body 9x9mm, Pitch 1.27mm, IPC Low Density)
3D model TLC542-FN020 (20-Pin Leaded Chip Carrier 1.27 mm Pitch)
pins: 1 A0 (in), 2 A1 (in), 3 A2 (in), 4 A3 (in), 5 A4 (in), 6 A5 (in), 7 A6 (in), 8 A7 (in), 9 A8 (in), 10 GND (power), 11 A9 (in), 12 A10 (in), 13 REF- (in), 14 REF+ (in), 15 ~{CS} (in), 16 DO (hiz), 17 ADD IN (in), 18 I/O CLK (in), 19 EOC (out), 20 VCC (power)

## TLC542MN
designator U?
8-Bit Analog-to-Digital Peripheral with Serial Control and 11 Inputs; Published: 15-Apr-2002; LatestRevisionDate: 08-Jul-2005; LatestRevisionNote: Stylized 3D Model Added.; DatasheetVersion: Feb-1989; PackageVersion: Oct-1995; PackageReference: N020; Publisher: Altium Limited; PackageDescription: DIP; 20 Leads; Row Spacing 7.62 mm; Pitch 2.54 mm; ComponentLink1Description: Manufacturer Link; ComponentLink1URL: http://www.ti.com/; ComponentLink2Description: Datasheet; ComponentLink2URL: http://www-s.ti.com/sc/ds/tlc542.pdf
footprint N020 (DIP; 20 Leads; Row Spacing 7.62 mm; Pitch 2.54 mm)
3D model N020 (DIP; 20 Leads; Row Spacing 7.62 mm; Pitch 2.54 mm)
pins: 1 A0 (in), 2 A1 (in), 3 A2 (in), 4 A3 (in), 5 A4 (in), 6 A5 (in), 7 A6 (in), 8 A7 (in), 9 A8 (in), 10 GND (power), 11 A9 (in), 12 A10 (in), 13 REF- (in), 14 REF+ (in), 15 ~{CS} (in), 16 DO (hiz), 17 ADD IN (in), 18 I/O CLK (in), 19 EOC (out), 20 VCC (power)

## TLC543ID
designator U?
8-Bit Analog-to-Digital Peripheral with Serial Control and 5 Inputs; Published: 15-Apr-2002; LatestRevisionDate: 13-Apr-2006; LatestRevisionNote: IPC-7351 Footprint Added.; DatasheetVersion: Sep-1986; PackageVersion: Jan-1998; PackageReference: D014; Publisher: Altium Limited; PackageDescription: 14-Pin Small Outline Integrated Circuit 1.27 mm Pitch; Code_IPC: SOIC127P600-14; ComponentLink1Description: Manufacturer Link; ComponentLink1URL: http://www.ti.com/
footprint D014_N (SOIC, 14-Leads, Body 8.7x3.9mm, Pitch 1.27mm, IPC Medium Density)
footprint D014_L (SOIC, 14-Leads, Body 8.7x3.9mm, Pitch 1.27mm, IPC High Density)
footprint D014_M (SOIC, 14-Leads, Body 8.7x3.9mm, Pitch 1.27mm, IPC Low Density)
3D model D014 (14-Pin Small Outline Integrated Circuit 1.27 mm Pitch)
pins: 1 A0 (in), 2 A1 (in), 3 A2 (in), 4 A3 (in), 5 A4 (in), 6 REF- (in), 7 GND (power), 8 ~{CS} (in), 9 DO (hiz), 10 I/O CLK (in), 11 ADD IN (in), 12 EOC (out), 13 REF+ (in), 14 VDD (power)

## TLC543IJ
designator U?
8-Bit Analog-to-Digital Peripheral with Serial Control and 5 Inputs; Published: 15-Apr-2002; LatestRevisionDate: 08-Jul-2005; LatestRevisionNote: Stylized 3D Model Added.; DatasheetVersion: Sep-1986; PackageVersion: Jun-1999; PackageReference: J014; Publisher: Altium Limited; PackageDescription: DIP; 14 Leads; Row Spacing 7.62 mm; Pitch 2.54 mm; ComponentLink1Description: Manufacturer Link; ComponentLink1URL: http://www.ti.com/
footprint J014 (DIP; 14 Leads; Row Spacing 7.62 mm; Pitch 2.54 mm)
3D model J014 (DIP; 14 Leads; Row Spacing 7.62 mm; Pitch 2.54 mm)
pins: 1 A0 (in), 2 A1 (in), 3 A2 (in), 4 A3 (in), 5 A4 (in), 6 REF- (in), 7 GND (power), 8 ~{CS} (in), 9 DO (hiz), 10 I/O CLK (in), 11 ADD IN (in), 12 EOC (out), 13 REF+ (in), 14 VDD (power)

## TLC543IN
designator U?
8-Bit Analog-to-Digital Peripheral with Serial Control and 5 Inputs; Published: 15-Apr-2002; LatestRevisionDate: 08-Jul-2005; LatestRevisionNote: Stylized 3D Model Added.; DatasheetVersion: Jan-1989; PackageVersion: Oct-1995; PackageReference: N014; Publisher: Altium Limited; PackageDescription: DIP; 14 Leads; Row Spacing 7.62 mm; Pitch 2.54 mm; ComponentLink1Description: Manufacturer Link; ComponentLink1URL: http://www.ti.com/
footprint N014 (DIP; 14 Leads; Row Spacing 7.62 mm; Pitch 2.54 mm)
3D model N014 (DIP; 14 Leads; Row Spacing 7.62 mm; Pitch 2.54 mm)
pins: 1 A0 (in), 2 A1 (in), 3 A2 (in), 4 A3 (in), 5 A4 (in), 6 REF- (in), 7 GND (power), 8 ~{CS} (in), 9 DO (hiz), 10 I/O CLK (in), 11 ADD IN (in), 12 EOC (out), 13 REF+ (in), 14 VDD (power)

## TLC543MD
designator U?
8-Bit Analog-to-Digital Peripheral with Serial Control and 5 Inputs; Published: 15-Apr-2002; LatestRevisionDate: 13-Apr-2006; LatestRevisionNote: IPC-7351 Footprint Added.; DatasheetVersion: Sep-1986; PackageVersion: Jan-1998; PackageReference: D014; Publisher: Altium Limited; PackageDescription: 14-Pin Small Outline Integrated Circuit 1.27 mm Pitch; Code_IPC: SOIC127P600-14; ComponentLink1Description: Manufacturer Link; ComponentLink1URL: http://www.ti.com/
footprint D014_N (SOIC, 14-Leads, Body 8.7x3.9mm, Pitch 1.27mm, IPC Medium Density)
footprint D014_L (SOIC, 14-Leads, Body 8.7x3.9mm, Pitch 1.27mm, IPC High Density)
footprint D014_M (SOIC, 14-Leads, Body 8.7x3.9mm, Pitch 1.27mm, IPC Low Density)
3D model D014 (14-Pin Small Outline Integrated Circuit 1.27 mm Pitch)
pins: 1 A0 (in), 2 A1 (in), 3 A2 (in), 4 A3 (in), 5 A4 (in), 6 REF- (in), 7 GND (power), 8 ~{CS} (in), 9 DO (hiz), 10 I/O CLK (in), 11 ADD IN (in), 12 EOC (out), 13 REF+ (in), 14 VDD (power)

## TLC543MJ
designator U?
8-Bit Analog-to-Digital Peripheral with Serial Control and 5 Inputs; Published: 15-Apr-2002; LatestRevisionDate: 08-Jul-2005; LatestRevisionNote: Stylized 3D Model Added.; DatasheetVersion: Sep-1986; PackageVersion: Jun-1999; PackageReference: J014; Publisher: Altium Limited; PackageDescription: DIP; 14 Leads; Row Spacing 7.62 mm; Pitch 2.54 mm; ComponentLink1Description: Manufacturer Link; ComponentLink1URL: http://www.ti.com/
footprint J014 (DIP; 14 Leads; Row Spacing 7.62 mm; Pitch 2.54 mm)
3D model J014 (DIP; 14 Leads; Row Spacing 7.62 mm; Pitch 2.54 mm)
pins: 1 A0 (in), 2 A1 (in), 3 A2 (in), 4 A3 (in), 5 A4 (in), 6 REF- (in), 7 GND (power), 8 ~{CS} (in), 9 DO (hiz), 10 I/O CLK (in), 11 ADD IN (in), 12 EOC (out), 13 REF+ (in), 14 VDD (power)

## TLC543MN
designator U?
8-Bit Analog-to-Digital Peripheral with Serial Control and 5 Inputs; Published: 15-Apr-2002; LatestRevisionDate: 08-Jul-2005; LatestRevisionNote: Stylized 3D Model Added.; DatasheetVersion: Jan-1989; PackageVersion: Oct-1995; PackageReference: N014; Publisher: Altium Limited; PackageDescription: DIP; 14 Leads; Row Spacing 7.62 mm; Pitch 2.54 mm; ComponentLink1Description: Manufacturer Link; ComponentLink1URL: http://www.ti.com/
footprint N014 (DIP; 14 Leads; Row Spacing 7.62 mm; Pitch 2.54 mm)
3D model N014 (DIP; 14 Leads; Row Spacing 7.62 mm; Pitch 2.54 mm)
pins: 1 A0 (in), 2 A1 (in), 3 A2 (in), 4 A3 (in), 5 A4 (in), 6 REF- (in), 7 GND (power), 8 ~{CS} (in), 9 DO (hiz), 10 I/O CLK (in), 11 ADD IN (in), 12 EOC (out), 13 REF+ (in), 14 VDD (power)

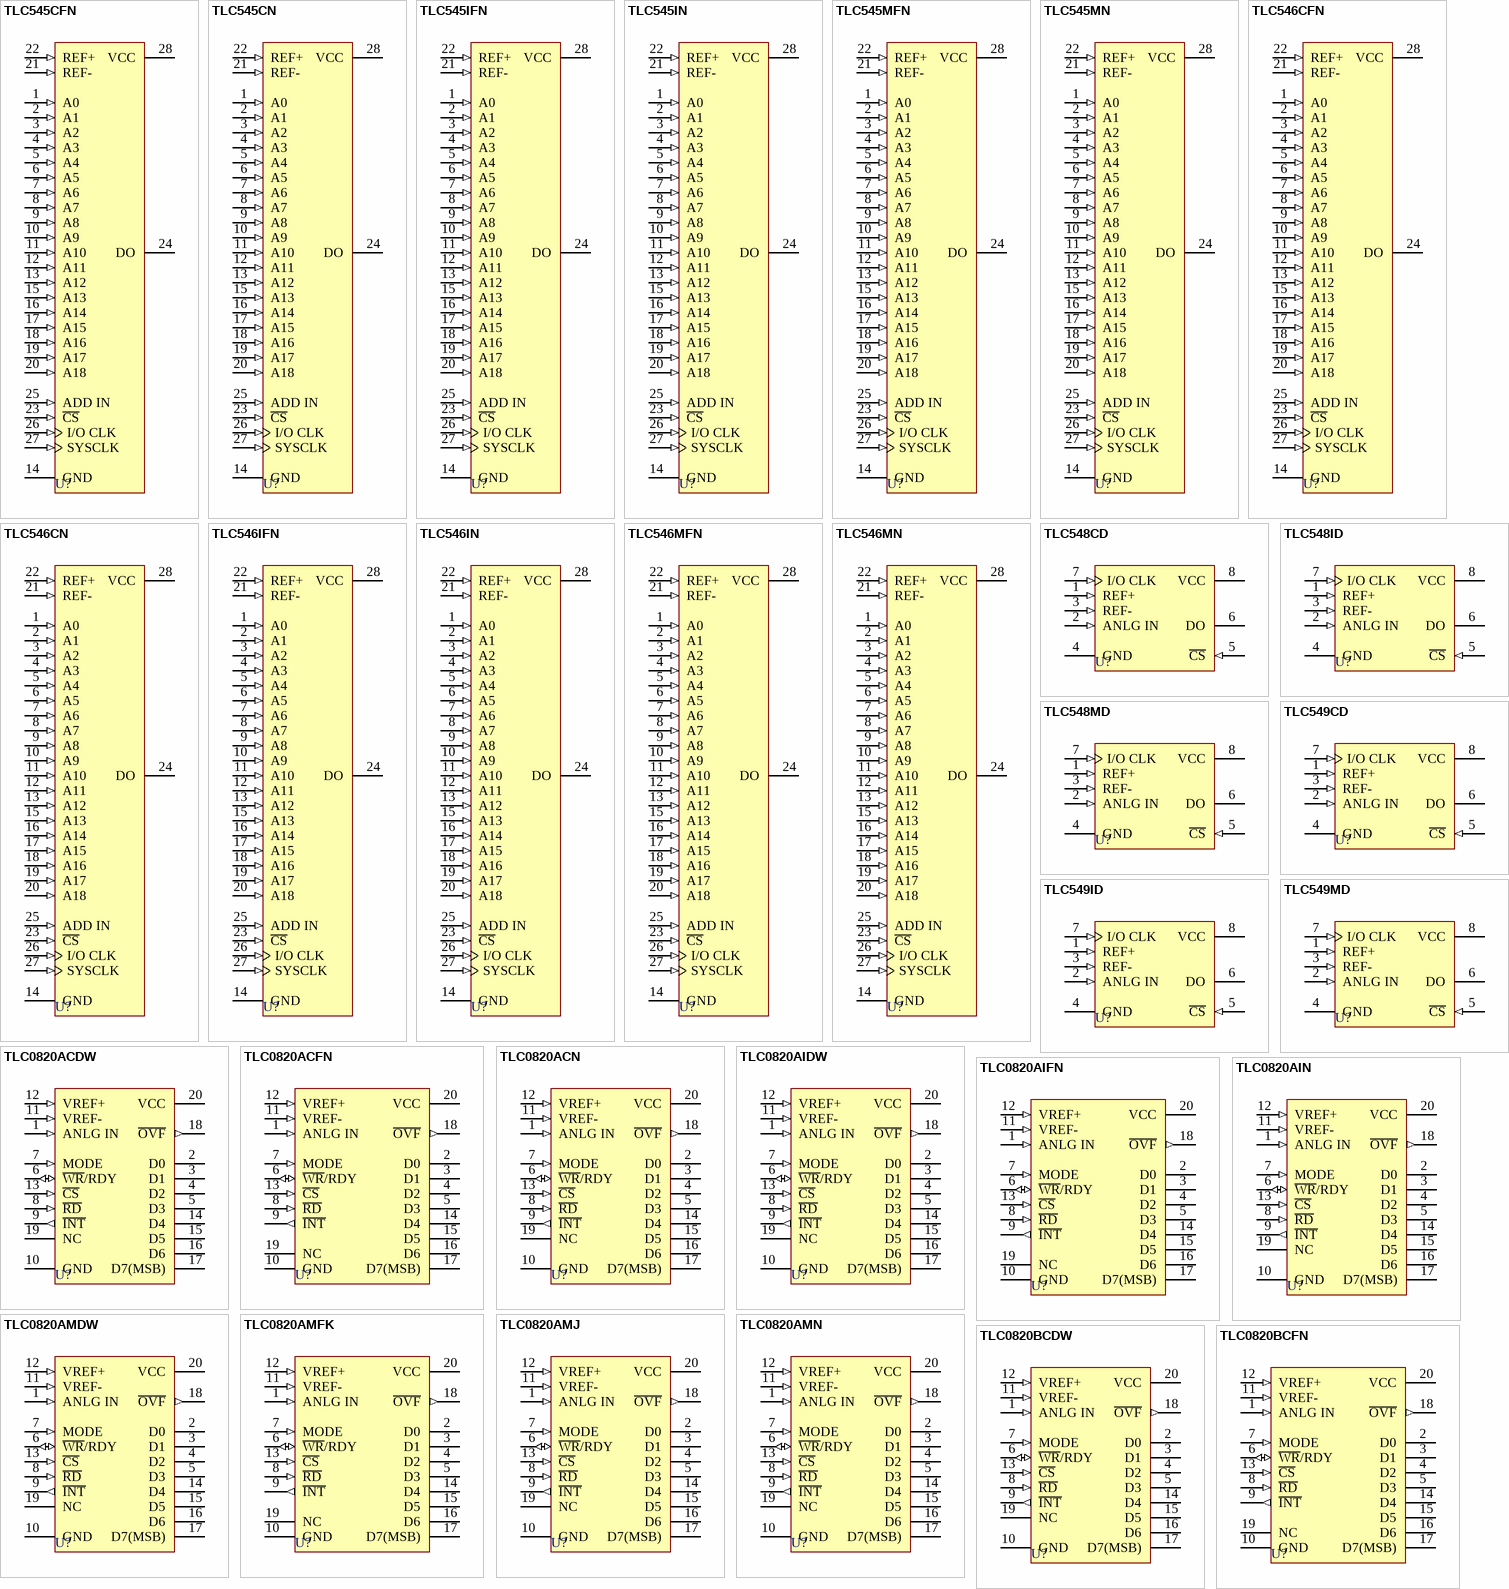
[diagram p3: symbols TLC545CFN to TLC0820BCFN]

## TLC545CFN
designator U?
LinCMOS 8-Bit Analog-to-Digital Peripheral with Serial Control and 19 Inputs; Published: 15-Apr-2002; LatestRevisionDate: 13-Apr-2006; LatestRevisionNote: IPC-7351 Footprint Added.; DatasheetVersion: Sep-1988; PackageVersion: Oct-1994; PackageReference: FN028; Publisher: Altium Limited; PackageDescription: 28-Pin Leaded Chip Carrier 1.27 mm Pitch; Code_JEDEC: MS-018; Code_IPC: PLCC-28; ComponentLink1Description: Manufacturer Link; ComponentLink1URL: http://www.ti.com/; ComponentLink2Description: Datasheet; ComponentLink2URL: http://www-s.ti.com/sc/ds/tlc545.pdf
footprint FN028_N (Leaded Chip Carrier, 28-Leads, Body 11.5x11.5mm, Pitch 1.27mm, IPC Medium Density)
footprint FN028_L (Leaded Chip Carrier, 28-Leads, Body 11.5x11.5mm, Pitch 1.27mm, IPC High Density)
footprint FN028_M (Leaded Chip Carrier, 28-Leads, Body 11.5x11.5mm, Pitch 1.27mm, IPC Low Density)
3D model TLC545-FN028 (28-Pin Leaded Chip Carrier 1.27 mm Pitch)
pins: 1 A0 (in), 2 A1 (in), 3 A2 (in), 4 A3 (in), 5 A4 (in), 6 A5 (in), 7 A6 (in), 8 A7 (in), 9 A8 (in), 10 A9 (in), 11 A10 (in), 12 A11 (in), 13 A12 (in), 14 GND (power), 15 A13 (in), 16 A14 (in), 17 A15 (in), 18 A16 (in), 19 A17 (in), 20 A18 (in), 21 REF- (in), 22 REF+ (in), 23 ~{CS} (in), 24 DO (hiz), 25 ADD IN (in), 26 I/O CLK (in), 27 SYSCLK (in), 28 VCC (power)

## TLC545CN
designator U?
LinCMOS 8-Bit Analog-to-Digital Peripheral with Serial Control and 19 Inputs; Published: 15-Apr-2002; LatestRevisionDate: 08-Jul-2005; LatestRevisionNote: Stylized 3D Model Added.; DatasheetVersion: Sep-1988; PackageVersion: Oct-1994; PackageReference: N028; Publisher: Altium Limited; PackageDescription: DIP; 28 Leads; Row Spacing 15.24 mm; Pitch 2.54 mm; ComponentLink1Description: Manufacturer Link; ComponentLink1URL: http://www.ti.com/; ComponentLink2Description: Datasheet; ComponentLink2URL: http://www-s.ti.com/sc/ds/tlc545.pdf
footprint N028 (DIP; 28 Leads; Row Spacing 15.24 mm; Pitch 2.54 mm)
3D model N028 (DIP; 28 Leads; Row Spacing 15.24 mm; Pitch 2.54 mm)
pins: 1 A0 (in), 2 A1 (in), 3 A2 (in), 4 A3 (in), 5 A4 (in), 6 A5 (in), 7 A6 (in), 8 A7 (in), 9 A8 (in), 10 A9 (in), 11 A10 (in), 12 A11 (in), 13 A12 (in), 14 GND (power), 15 A13 (in), 16 A14 (in), 17 A15 (in), 18 A16 (in), 19 A17 (in), 20 A18 (in), 21 REF- (in), 22 REF+ (in), 23 ~{CS} (in), 24 DO (hiz), 25 ADD IN (in), 26 I/O CLK (in), 27 SYSCLK (in), 28 VCC (power)

## TLC545IFN
designator U?
LinCMOS 8-Bit Analog-to-Digital Peripheral with Serial Control and 19 Inputs; Published: 15-Apr-2002; LatestRevisionDate: 13-Apr-2006; LatestRevisionNote: IPC-7351 Footprint Added.; DatasheetVersion: Sep-1988; PackageVersion: Oct-1994; PackageReference: FN028; Publisher: Altium Limited; PackageDescription: 28-Pin Leaded Chip Carrier 1.27 mm Pitch; Code_JEDEC: MS-018; Code_IPC: PLCC-28; ComponentLink1Description: Manufacturer Link; ComponentLink1URL: http://www.ti.com/; ComponentLink2Description: Datasheet; ComponentLink2URL: http://www-s.ti.com/sc/ds/tlc545.pdf
footprint FN028_N (Leaded Chip Carrier, 28-Leads, Body 11.5x11.5mm, Pitch 1.27mm, IPC Medium Density)
footprint FN028_L (Leaded Chip Carrier, 28-Leads, Body 11.5x11.5mm, Pitch 1.27mm, IPC High Density)
footprint FN028_M (Leaded Chip Carrier, 28-Leads, Body 11.5x11.5mm, Pitch 1.27mm, IPC Low Density)
3D model TLC545-FN028 (28-Pin Leaded Chip Carrier 1.27 mm Pitch)
pins: 1 A0 (in), 2 A1 (in), 3 A2 (in), 4 A3 (in), 5 A4 (in), 6 A5 (in), 7 A6 (in), 8 A7 (in), 9 A8 (in), 10 A9 (in), 11 A10 (in), 12 A11 (in), 13 A12 (in), 14 GND (power), 15 A13 (in), 16 A14 (in), 17 A15 (in), 18 A16 (in), 19 A17 (in), 20 A18 (in), 21 REF- (in), 22 REF+ (in), 23 ~{CS} (in), 24 DO (hiz), 25 ADD IN (in), 26 I/O CLK (in), 27 SYSCLK (in), 28 VCC (power)

## TLC545IN
designator U?
LinCMOS 8-Bit Analog-to-Digital Peripheral with Serial Control and 19 Inputs; Published: 15-Apr-2002; LatestRevisionDate: 08-Jul-2005; LatestRevisionNote: Stylized 3D Model Added.; DatasheetVersion: Sep-1988; PackageVersion: Oct-1994; PackageReference: N028; Publisher: Altium Limited; PackageDescription: DIP; 28 Leads; Row Spacing 15.24 mm; Pitch 2.54 mm; ComponentLink1Description: Manufacturer Link; ComponentLink1URL: http://www.ti.com/; ComponentLink2Description: Datasheet; ComponentLink2URL: http://www-s.ti.com/sc/ds/tlc545.pdf
footprint N028 (DIP; 28 Leads; Row Spacing 15.24 mm; Pitch 2.54 mm)
3D model N028 (DIP; 28 Leads; Row Spacing 15.24 mm; Pitch 2.54 mm)
pins: 1 A0 (in), 2 A1 (in), 3 A2 (in), 4 A3 (in), 5 A4 (in), 6 A5 (in), 7 A6 (in), 8 A7 (in), 9 A8 (in), 10 A9 (in), 11 A10 (in), 12 A11 (in), 13 A12 (in), 14 GND (power), 15 A13 (in), 16 A14 (in), 17 A15 (in), 18 A16 (in), 19 A17 (in), 20 A18 (in), 21 REF- (in), 22 REF+ (in), 23 ~{CS} (in), 24 DO (hiz), 25 ADD IN (in), 26 I/O CLK (in), 27 SYSCLK (in), 28 VCC (power)

## TLC545MFN
designator U?
LinCMOS 8-Bit Analog-to-Digital Peripheral with Serial Control and 19 Inputs; Published: 15-Apr-2002; LatestRevisionDate: 13-Apr-2006; LatestRevisionNote: IPC-7351 Footprint Added.; DatasheetVersion: Sep-1988; PackageVersion: Oct-1994; PackageReference: FN028; Publisher: Altium Limited; PackageDescription: 28-Pin Leaded Chip Carrier 1.27 mm Pitch; Code_JEDEC: MS-018; Code_IPC: PLCC-28; ComponentLink1Description: Manufacturer Link; ComponentLink1URL: http://www.ti.com/
footprint FN028_N (Leaded Chip Carrier, 28-Leads, Body 11.5x11.5mm, Pitch 1.27mm, IPC Medium Density)
footprint FN028_L (Leaded Chip Carrier, 28-Leads, Body 11.5x11.5mm, Pitch 1.27mm, IPC High Density)
footprint FN028_M (Leaded Chip Carrier, 28-Leads, Body 11.5x11.5mm, Pitch 1.27mm, IPC Low Density)
3D model TLC545-FN028 (28-Pin Leaded Chip Carrier 1.27 mm Pitch)
pins: 1 A0 (in), 2 A1 (in), 3 A2 (in), 4 A3 (in), 5 A4 (in), 6 A5 (in), 7 A6 (in), 8 A7 (in), 9 A8 (in), 10 A9 (in), 11 A10 (in), 12 A11 (in), 13 A12 (in), 14 GND (power), 15 A13 (in), 16 A14 (in), 17 A15 (in), 18 A16 (in), 19 A17 (in), 20 A18 (in), 21 REF- (in), 22 REF+ (in), 23 ~{CS} (in), 24 DO (hiz), 25 ADD IN (in), 26 I/O CLK (in), 27 SYSCLK (in), 28 VCC (power)

## TLC545MN
designator U?
LinCMOS 8-Bit Analog-to-Digital Peripheral with Serial Control and 19 Inputs; Published: 15-Apr-2002; LatestRevisionDate: 08-Jul-2005; LatestRevisionNote: Stylized 3D Model Added.; DatasheetVersion: Sep-1988; PackageVersion: Oct-1994; PackageReference: N028; Publisher: Altium Limited; PackageDescription: DIP; 28 Leads; Row Spacing 15.24 mm; Pitch 2.54 mm; ComponentLink1Description: Manufacturer Link; ComponentLink1URL: http://www.ti.com/
footprint N028 (DIP; 28 Leads; Row Spacing 15.24 mm; Pitch 2.54 mm)
3D model N028 (DIP; 28 Leads; Row Spacing 15.24 mm; Pitch 2.54 mm)
pins: 1 A0 (in), 2 A1 (in), 3 A2 (in), 4 A3 (in), 5 A4 (in), 6 A5 (in), 7 A6 (in), 8 A7 (in), 9 A8 (in), 10 A9 (in), 11 A10 (in), 12 A11 (in), 13 A12 (in), 14 GND (power), 15 A13 (in), 16 A14 (in), 17 A15 (in), 18 A16 (in), 19 A17 (in), 20 A18 (in), 21 REF- (in), 22 REF+ (in), 23 ~{CS} (in), 24 DO (hiz), 25 ADD IN (in), 26 I/O CLK (in), 27 SYSCLK (in), 28 VCC (power)

## TLC546CFN
designator U?
LinCMOS 8-Bit Analog-to-Digital Peripheral with Serial Control and 19 Inputs; Published: 15-Apr-2002; LatestRevisionDate: 13-Apr-2006; LatestRevisionNote: IPC-7351 Footprint Added.; DatasheetVersion: Sep-1988; PackageVersion: Oct-1994; PackageReference: FN028; Publisher: Altium Limited; PackageDescription: 28-Pin Leaded Chip Carrier 1.27 mm Pitch; Code_JEDEC: MS-018; Code_IPC: PLCC-28; ComponentLink1Description: Manufacturer Link; ComponentLink1URL: http://www.ti.com/; ComponentLink2Description: Datasheet; ComponentLink2URL: http://www-s.ti.com/sc/ds/tlc546.pdf
footprint FN028_N (Leaded Chip Carrier, 28-Leads, Body 11.5x11.5mm, Pitch 1.27mm, IPC Medium Density)
footprint FN028_L (Leaded Chip Carrier, 28-Leads, Body 11.5x11.5mm, Pitch 1.27mm, IPC High Density)
footprint FN028_M (Leaded Chip Carrier, 28-Leads, Body 11.5x11.5mm, Pitch 1.27mm, IPC Low Density)
3D model TLC546-FN028 (28-Pin Leaded Chip Carrier 1.27 mm Pitch)
pins: 1 A0 (in), 2 A1 (in), 3 A2 (in), 4 A3 (in), 5 A4 (in), 6 A5 (in), 7 A6 (in), 8 A7 (in), 9 A8 (in), 10 A9 (in), 11 A10 (in), 12 A11 (in), 13 A12 (in), 14 GND (power), 15 A13 (in), 16 A14 (in), 17 A15 (in), 18 A16 (in), 19 A17 (in), 20 A18 (in), 21 REF- (in), 22 REF+ (in), 23 ~{CS} (in), 24 DO (hiz), 25 ADD IN (in), 26 I/O CLK (in), 27 SYSCLK (in), 28 VCC (power)

## TLC546CN
designator U?
LinCMOS 8-Bit Analog-to-Digital Peripheral with Serial Control and 19 Inputs; Published: 15-Apr-2002; LatestRevisionDate: 08-Jul-2005; LatestRevisionNote: Stylized 3D Model Added.; DatasheetVersion: Sep-1988; PackageVersion: Oct-1994; PackageReference: N028; Publisher: Altium Limited; PackageDescription: DIP; 28 Leads; Row Spacing 15.24 mm; Pitch 2.54 mm; ComponentLink1Description: Manufacturer Link; ComponentLink1URL: http://www.ti.com/; ComponentLink2Description: Datasheet; ComponentLink2URL: http://www-s.ti.com/sc/ds/tlc546.pdf
footprint N028 (DIP; 28 Leads; Row Spacing 15.24 mm; Pitch 2.54 mm)
3D model N028 (DIP; 28 Leads; Row Spacing 15.24 mm; Pitch 2.54 mm)
pins: 1 A0 (in), 2 A1 (in), 3 A2 (in), 4 A3 (in), 5 A4 (in), 6 A5 (in), 7 A6 (in), 8 A7 (in), 9 A8 (in), 10 A9 (in), 11 A10 (in), 12 A11 (in), 13 A12 (in), 14 GND (power), 15 A13 (in), 16 A14 (in), 17 A15 (in), 18 A16 (in), 19 A17 (in), 20 A18 (in), 21 REF- (in), 22 REF+ (in), 23 ~{CS} (in), 24 DO (hiz), 25 ADD IN (in), 26 I/O CLK (in), 27 SYSCLK (in), 28 VCC (power)

## TLC546IFN
designator U?
LinCMOS 8-Bit Analog-to-Digital Peripheral with Serial Control and 19 Inputs; ComponentAvailability: Obsolete; Published: 15-Apr-2002; LatestRevisionDate: 13-Apr-2006; LatestRevisionNote: IPC-7351 Footprint Added.; DatasheetVersion: Sep-1988; PackageVersion: Oct-1994; PackageReference: FN028; Publisher: Altium Limited; PackageDescription: 28-Pin Leaded Chip Carrier 1.27 mm Pitch; Code_JEDEC: MS-018; Code_IPC: PLCC-28; ComponentLink1Description: Manufacturer Link; ComponentLink1URL: http://www.ti.com/; ComponentLink2Description: Datasheet; ComponentLink2URL: http://www-s.ti.com/sc/ds/tlc546.pdf
footprint FN028_N (Leaded Chip Carrier, 28-Leads, Body 11.5x11.5mm, Pitch 1.27mm, IPC Medium Density)
footprint FN028_L (Leaded Chip Carrier, 28-Leads, Body 11.5x11.5mm, Pitch 1.27mm, IPC High Density)
footprint FN028_M (Leaded Chip Carrier, 28-Leads, Body 11.5x11.5mm, Pitch 1.27mm, IPC Low Density)
3D model TLC546-FN028 (28-Pin Leaded Chip Carrier 1.27 mm Pitch)
pins: 1 A0 (in), 2 A1 (in), 3 A2 (in), 4 A3 (in), 5 A4 (in), 6 A5 (in), 7 A6 (in), 8 A7 (in), 9 A8 (in), 10 A9 (in), 11 A10 (in), 12 A11 (in), 13 A12 (in), 14 GND (power), 15 A13 (in), 16 A14 (in), 17 A15 (in), 18 A16 (in), 19 A17 (in), 20 A18 (in), 21 REF- (in), 22 REF+ (in), 23 ~{CS} (in), 24 DO (hiz), 25 ADD IN (in), 26 I/O CLK (in), 27 SYSCLK (in), 28 VCC (power)

## TLC546IN
designator U?
LinCMOS 8-Bit Analog-to-Digital Peripheral with Serial Control and 19 Inputs; ComponentAvailability: Obsolete; Published: 15-Apr-2002; LatestRevisionDate: 08-Jul-2005; LatestRevisionNote: Stylized 3D Model Added.; DatasheetVersion: Sep-1988; PackageVersion: Oct-1994; PackageReference: N028; Publisher: Altium Limited; PackageDescription: DIP; 28 Leads; Row Spacing 15.24 mm; Pitch 2.54 mm; ComponentLink1Description: Manufacturer Link; ComponentLink1URL: http://www.ti.com/; ComponentLink2Description: Datasheet; ComponentLink2URL: http://www-s.ti.com/sc/ds/tlc546.pdf
footprint N028 (DIP; 28 Leads; Row Spacing 15.24 mm; Pitch 2.54 mm)
3D model N028 (DIP; 28 Leads; Row Spacing 15.24 mm; Pitch 2.54 mm)
pins: 1 A0 (in), 2 A1 (in), 3 A2 (in), 4 A3 (in), 5 A4 (in), 6 A5 (in), 7 A6 (in), 8 A7 (in), 9 A8 (in), 10 A9 (in), 11 A10 (in), 12 A11 (in), 13 A12 (in), 14 GND (power), 15 A13 (in), 16 A14 (in), 17 A15 (in), 18 A16 (in), 19 A17 (in), 20 A18 (in), 21 REF- (in), 22 REF+ (in), 23 ~{CS} (in), 24 DO (hiz), 25 ADD IN (in), 26 I/O CLK (in), 27 SYSCLK (in), 28 VCC (power)

## TLC546MFN
designator U?
LinCMOS 8-Bit Analog-to-Digital Peripheral with Serial Control and 19 Inputs; Published: 15-Apr-2002; LatestRevisionDate: 13-Apr-2006; LatestRevisionNote: IPC-7351 Footprint Added.; DatasheetVersion: Sep-1988; PackageVersion: Oct-1994; PackageReference: FN028; Publisher: Altium Limited; PackageDescription: 28-Pin Leaded Chip Carrier 1.27 mm Pitch; Code_JEDEC: MS-018; Code_IPC: PLCC-28; ComponentLink1Description: Manufacturer Link; ComponentLink1URL: http://www.ti.com/
footprint FN028_N (Leaded Chip Carrier, 28-Leads, Body 11.5x11.5mm, Pitch 1.27mm, IPC Medium Density)
footprint FN028_L (Leaded Chip Carrier, 28-Leads, Body 11.5x11.5mm, Pitch 1.27mm, IPC High Density)
footprint FN028_M (Leaded Chip Carrier, 28-Leads, Body 11.5x11.5mm, Pitch 1.27mm, IPC Low Density)
3D model TLC546-FN028 (28-Pin Leaded Chip Carrier 1.27 mm Pitch)
pins: 1 A0 (in), 2 A1 (in), 3 A2 (in), 4 A3 (in), 5 A4 (in), 6 A5 (in), 7 A6 (in), 8 A7 (in), 9 A8 (in), 10 A9 (in), 11 A10 (in), 12 A11 (in), 13 A12 (in), 14 GND (power), 15 A13 (in), 16 A14 (in), 17 A15 (in), 18 A16 (in), 19 A17 (in), 20 A18 (in), 21 REF- (in), 22 REF+ (in), 23 ~{CS} (in), 24 DO (hiz), 25 ADD IN (in), 26 I/O CLK (in), 27 SYSCLK (in), 28 VCC (power)

## TLC546MN
designator U?
LinCMOS 8-Bit Analog-to-Digital Peripheral with Serial Control and 19 Inputs; Published: 15-Apr-2002; LatestRevisionDate: 08-Jul-2005; LatestRevisionNote: Stylized 3D Model Added.; DatasheetVersion: Sep-1988; PackageVersion: Oct-1994; PackageReference: N028; Publisher: Altium Limited; PackageDescription: DIP; 28 Leads; Row Spacing 15.24 mm; Pitch 2.54 mm; ComponentLink1Description: Manufacturer Link; ComponentLink1URL: http://www.ti.com/
footprint N028 (DIP; 28 Leads; Row Spacing 15.24 mm; Pitch 2.54 mm)
3D model N028 (DIP; 28 Leads; Row Spacing 15.24 mm; Pitch 2.54 mm)
pins: 1 A0 (in), 2 A1 (in), 3 A2 (in), 4 A3 (in), 5 A4 (in), 6 A5 (in), 7 A6 (in), 8 A7 (in), 9 A8 (in), 10 A9 (in), 11 A10 (in), 12 A11 (in), 13 A12 (in), 14 GND (power), 15 A13 (in), 16 A14 (in), 17 A15 (in), 18 A16 (in), 19 A17 (in), 20 A18 (in), 21 REF- (in), 22 REF+ (in), 23 ~{CS} (in), 24 DO (hiz), 25 ADD IN (in), 26 I/O CLK (in), 27 SYSCLK (in), 28 VCC (power)

## TLC548CD
designator U?
LinCMOS 8-Bit Analog-to-Digital Peripheral with Serial Control; Published: 15-Apr-2002; LatestRevisionDate: 13-Apr-2006; LatestRevisionNote: IPC-7351 Footprint Added.; DatasheetVersion: Oct-1988; PackageVersion: Jan-1998; PackageReference: D008; Publisher: Altium Limited; PackageDescription: 8-Pin Small Outline Integrated Circuit 1.27 mm Pitch; Code_IPC: SOIC127P600-8; ComponentLink1Description: Manufacturer Link; ComponentLink1URL: http://www.ti.com/; ComponentLink2Description: Datasheet; ComponentLink2URL: http://www-s.ti.com/sc/ds/tlc548.pdf
footprint D008_N (SOIC, 8-Leads, Body 4.9x3.9mm, Pitch 1.27mm, IPC Medium Density)
footprint D008_L (SOIC, 8-Leads, Body 4.9x3.9mm, Pitch 1.27mm, IPC High Density)
footprint D008_M (SOIC, 8-Leads, Body 4.9x3.9mm, Pitch 1.27mm, IPC Low Density)
3D model D008 (8-Pin Small Outline Integrated Circuit 1.27 mm Pitch)
pins: 1 REF+ (in), 2 ANLG IN (in), 3 REF- (in), 4 GND (power), 5 ~{CS} (in), 6 DO (hiz), 7 I/O CLK (in), 8 VCC (power)

## TLC548ID
designator U?
LinCMOS 8-Bit Analog-to-Digital Peripheral with Serial Control; Published: 15-Apr-2002; LatestRevisionDate: 13-Apr-2006; LatestRevisionNote: IPC-7351 Footprint Added.; DatasheetVersion: Oct-1988; PackageVersion: Jan-1998; PackageReference: D008; Publisher: Altium Limited; PackageDescription: 8-Pin Small Outline Integrated Circuit 1.27 mm Pitch; Code_IPC: SOIC127P600-8; ComponentLink1Description: Manufacturer Link; ComponentLink1URL: http://www.ti.com/; ComponentLink2Description: Datasheet; ComponentLink2URL: http://www-s.ti.com/sc/ds/tlc548.pdf
footprint D008_N (SOIC, 8-Leads, Body 4.9x3.9mm, Pitch 1.27mm, IPC Medium Density)
footprint D008_L (SOIC, 8-Leads, Body 4.9x3.9mm, Pitch 1.27mm, IPC High Density)
footprint D008_M (SOIC, 8-Leads, Body 4.9x3.9mm, Pitch 1.27mm, IPC Low Density)
3D model D008 (8-Pin Small Outline Integrated Circuit 1.27 mm Pitch)
pins: 1 REF+ (in), 2 ANLG IN (in), 3 REF- (in), 4 GND (power), 5 ~{CS} (in), 6 DO (hiz), 7 I/O CLK (in), 8 VCC (power)